# EAGLE library part ADA4091-2ARZ-RL (library ADA4091-2ARZ-RL)
Precision Micropower Operational Amplifier
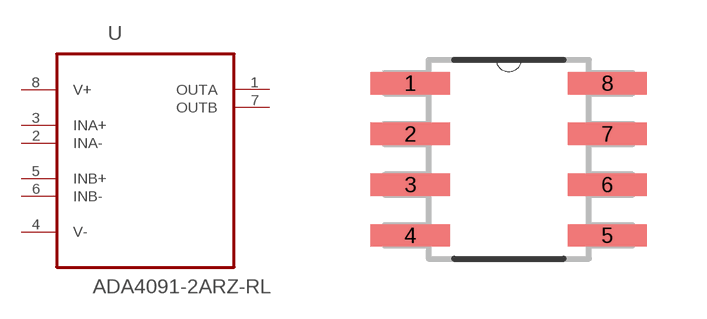
[diagram p0: symbol with the pads of SOIC127P600X175-8N; footprint SOIC127P600X175-8N]

Designator prefix U

## ADA4091-2ARZ-RL (Availability: Unavailable; Description: Ic Opamp Gp 1.27mhz Rro 8soic; MF: Analog; MP: ADA4091-2ARZ-RL; Package: SOIC-8 Analog Devices; Price: 3.30 USD)  [SOIC127P600X175-8N]
1  OUTA  out
2  INA-  in
3  INA+  in
4  V-  pwr
5  INB+  in
6  INB-  in
7  OUTB  out
8  V+  pwr

## Footprint SOIC127P600X175-8N (pad centres in mm)
smd 1.981 x 0.559: 1 -2.464,1.905; 2 -2.464,0.635; 3 -2.464,-0.635; 4 -2.464,-1.905; 5 2.464,-1.905; 6 2.464,-0.635; 7 2.464,0.635; 8 2.464,1.905